# EAGLE library part USB-A-SMD-FLAT-SIDE (library USB Connector)
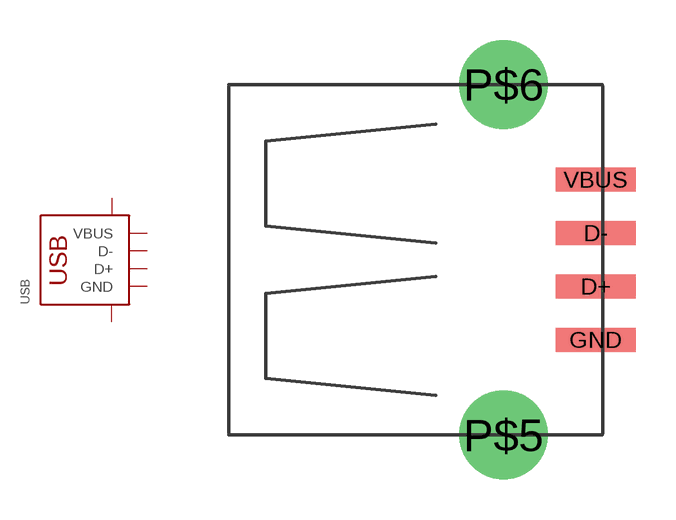
[diagram p0: symbol with the pads of USB-A-SMD-FLAT-SIDE; footprint USB-A-SMD-FLAT-SIDE]

Designator prefix USB

## USB-A-SMD-FLAT-SIDE  [USB-A-SMD-FLAT-SIDE]
D+  D+
D-  D-
GND  GND
P$5  SHIELD
P$6  SHIELD
VBUS  VBUS

## Footprint USB-A-SMD-FLAT-SIDE (pad centres in mm)
USB Series A Surface Mounted
smd 3 x 0.9: D+ 3.45,-1; D- 3.45,1; GND 3.45,-3; VBUS 3.45,3
drill 2.311: P$5 0,-6.566; P$6 0,6.566